# EAGLE library part LM4913 (library NewSDR)
2W Mono, 90 mW Stereo Hedphone Audio Amplifier - TPA0213 Second Source
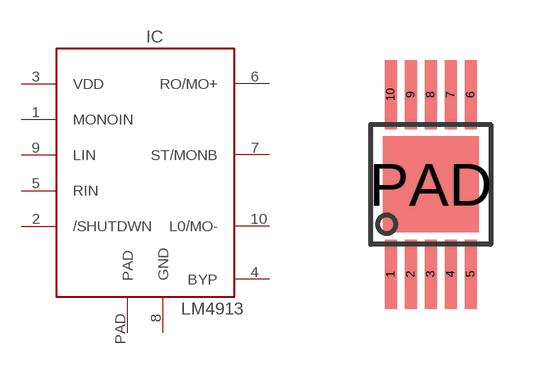
[diagram p33: symbol with the pads of PDSO-G10; footprint PDSO-G10]

Designator prefix IC

## LM4913  [PDSO-G10]
1  MONOIN  out
2  /SHUTDWN  out
3  VDD  out
4  BYP  out
5  RIN  out
6  RO/MO+  out
7  ST/MONB  out
8  GND  out
9  LIN  out
10  L0/MO-  out
PAD  PAD  out

## Footprint PDSO-G10 (pad centres in mm)
PowerPAD 10-Pin TSSOP (Plastic Small-Outline Package)
smd 0.3 x 1.73: 1 -1,-2.245; 2 -0.5,-2.245; 3 0,-2.245; 4 0.5,-2.245; 5 1,-2.245; 6 1,2.245; 7 0.5,2.245; 8 0,2.245; 9 -0.5,2.245; 10 -1,2.245
smd 2.4 x 2.4: PAD 0,0